# Altium integrated library Linear - Amplifiers - Instrumentation, OP Amps, Buffer Amps.IntLib: 8 symbols
Pins are listed as number, name and electrical type; pins without a type are passive.

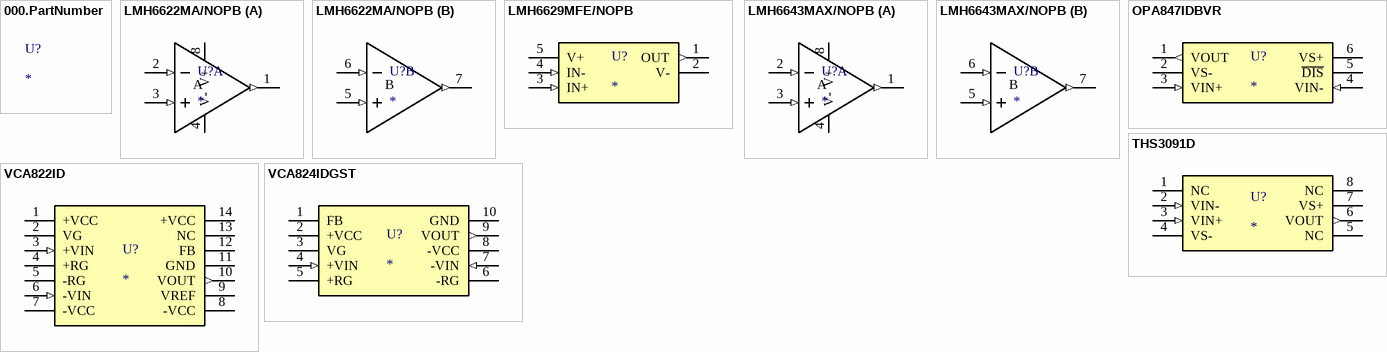
[diagram p0: symbols 000.PartNumber to VCA824IDGST]

## 000.PartNumber
designator U?
Digikey Description; Manufacturer: *; Series: *; Package: *; Amplifier Type: *; Output Type: *; Slew Rate: *; Current - Supply: *; Voltage - Supply, Single/Dual (±): *; Operating Temperature: *; Mounting Type: *; Package / Case: *; Supplier Device Package: *; Number of Circuits: *; -3db Bandwidth: *; Current - Input Bias: *; Voltage - Input Offset: *; Current - Output / Channel: *; Base Product Number: *; Ozdisan Link: *; Digikey Link: *

## LMH6622MA/NOPB
designator U?
IC OPAMP VFB 2 CIRCUIT 8SOIC; Manufacturer: Texas Instruments; Amplifier Type: Voltage Feedback; Output Type: Differential; Slew Rate: 85V/µs; Current - Supply: 4.3 mA (x2 Channels); Voltage - Supply, Single/Dual (±): 5V ~ 12V, ±2.5V ~ 6V; Number of Circuits: 2; -3db Bandwidth: 160 MHz; Current - Input Bias: 4.7 µA; Voltage - Input Offset: 200 µV; Current - Output / Channel: 90 mA; Base Product Number: LMH6622; Series: LMH®; Package: Tube; Operating Temperature: -40°C ~ 85°C; Mounting Type: Surface Mount; Package / Case: 8-SOIC (0.154", 3.90mm Width); Supplier Device Package: 8-SOIC; Ozdisan Link: https://ozdisan.com/entegre-devreler-ics/lineer-entegreler/amplifikatorler/LMH6622MANOPB; Digikey Link: https://www.digikey.com/en/products/detail/texas-instruments/LMH6622MA-NOPB/468357
footprint TI_8-SOIC
part A pins: 1 OUT (out), 2 IN- (in), 3 IN+ (in), 4 V-, 8 V+
part B pins: 5 IN+ (in), 6 IN- (in), 7 OUT (out)
part A text: A
part B text: B

## LMH6629MFE/NOPB
designator U?
IC OPAMP VFB 1 CIRCUIT SOT23-5; Manufacturer: Texas Instruments; Amplifier Type: Voltage Feedback; Slew Rate: 1600V/µs; Current - Supply: 15.5mA; Voltage - Supply, Single/Dual (±): 2.7V ~ 5.5V; Number of Circuits: 1; -3db Bandwidth: 1 GHz; Current - Input Bias: 15 µA; Voltage - Input Offset: 150 µV; Current - Output / Channel: 250 mA; Base Product Number: LMH6629; Series: -; Package: Tape & Reel (TR); Output Type: -; Operating Temperature: -40°C ~ 125°C; Mounting Type: Surface Mount; Package / Case: SC-74A, SOT-753; Supplier Device Package: SOT-23-5; Ozdisan Link: -; Digikey Link: https://www.digikey.com/en/products/detail/texas-instruments/LMH6629MFE-NOPB/2504263
footprint TI_SOT-23-5 (SOT-23 - 1.45 mm max height)
pins: 1 OUT (out), 2 V- (power), 3 IN+ (in), 4 IN- (in), 5 V+ (power)

## LMH6643MAX/NOPB
designator U?
IC OPAMP VFB 2 CIRCUIT 8SOIC; Manufacturer: Texas Instruments; Amplifier Type: Voltage Feedback; Output Type: Rail-to-Rail; Slew Rate: 135V/µs; Current - Supply: 2.7 mA (x2 Channels); Voltage - Supply, Single/Dual (±): 2.7V ~ 12.8V, ±1.35V ~ 6.4V; Number of Circuits: 2; -3db Bandwidth: 130 MHz; Current - Input Bias: 1.6 µA; Voltage - Input Offset: 1 mV; Current - Output / Channel: 75 mA; Base Product Number: LMH6643; Series: LMH®; Package: Tape & Reel (TR); Operating Temperature: -40°C ~ 85°C; Mounting Type: Surface Mount; Package / Case: 8-SOIC (0.154", 3.90mm Width); Supplier Device Package: 8-SOIC; Ozdisan Link: https://ozdisan.com/entegre-devreler-ics/lineer-entegreler/amplifikatorler/LMH6643MAXNOPB; Digikey Link: https://www.digikey.com/en/products/detail/texas-instruments/LMH6643MAX-NOPB/1872154?s=N4IgTCBcDaIDIFkASA2FAWAzAgggDQHoA5AeQAUAhEAXQF8g
footprint TI_8-SOIC
part A pins: 1 OUT (out), 2 IN- (in), 3 IN+ (in), 4 V-, 8 V+
part B pins: 5 IN+ (in), 6 IN- (in), 7 OUT (out)
part A text: A
part B text: B

## OPA847IDBVR
designator U?
IC OPAMP VFB 1 CIRCUIT SOT23-6; Manufacturer: Texas Instruments; Amplifier Type: Voltage Feedback; Slew Rate: 950 V/µs; Current - Supply: 18.1 mA; Voltage - Supply, Single/Dual (±): 5V ~ 12V, ±2.5V ~ 6V; Number of Circuits: 1; -3db Bandwidth: 3.9 GHz; Current - Input Bias: 19 µA; Voltage - Input Offset: 100 µV; Current - Output / Channel: 100 mA; Base Product Number: OPA847; Series: -; Package: Tape & Reel (TR); Output Type: -; Operating Temperature: -40°C ~ 85°C; Mounting Type: Surface Mount; Package / Case: SOT-23-6; Supplier Device Package: SOT-23-6; Ozdisan Link: -; Digikey Link: https://www.digikey.com/en/products/detail/texas-instruments/OPA847IDBVR/1572992
footprint TI_SOT-23-6
pins: 1 VOUT (out), 2 VS-, 3 VIN+ (in), 4 VIN- (in), 5 ~{DIS}, 6 VS+ (power)

## THS3091D
designator U?
IC OPAMP CFA 1 CIRCUIT 8SOIC; Manufacturer: Texas Instruments; Amplifier Type: Current Feedback; Slew Rate: 7300 V/µs; Current - Supply: 9.5 mA; Voltage - Supply, Single/Dual (±): 10V ~ 30V, ±5V ~ 15V; Number of Circuits: 1; -3db Bandwidth: 235 MHz; Current - Input Bias: 4 µA; Voltage - Input Offset: 900 µV; Current - Output / Channel: 280 mA; Base Product Number: THS3091; Series: -; Package: Tube; Output Type: -; Operating Temperature: -40°C ~ 85°C; Mounting Type: Surface Mount; Package / Case: 8-SOIC (0.154", 3.90mm Width); Supplier Device Package: 8-SOIC; Ozdisan Link: -; Digikey Link: https://www.digikey.com/en/products/detail/texas-instruments/THS3091D/610214
footprint TI_8-SOIC
pins: 1 NC, 2 VIN- (in), 3 VIN+ (in), 4 VS- (power), 5 NC, 6 VOUT (out), 7 VS+ (power), 8 NC

## VCA822ID
designator U?
IC OPAMP VGA 1 CIRCUIT 14SOIC; Manufacturer: Texas Instruments; Amplifier Type: Variable Gain; Slew Rate: 1700V/µs; Current - Supply: 36 mA; Voltage - Supply, Single/Dual (±): ±3.5V ~ 6V; Number of Circuits: 1; -3db Bandwidth: 168 MHz; Current - Input Bias: 19 µA; Voltage - Input Offset: 4 mV; Current - Output / Channel: 160 mA; Base Product Number: VCA822; Series: -; Package: Tube; Output Type: -; Operating Temperature: -40°C ~ 85°C; Mounting Type: Surface Mount; Package / Case: 14-SOIC (0.154", 3.90mm Width); Supplier Device Package: 14-SOIC; Ozdisan Link: -; Digikey Link: https://www.digikey.com/en/products/detail/texas-instruments/VCA822ID/1698964
footprint TI_14-SOIC
pins: 1 +VCC (power), 2 VG, 3 +VIN (in), 4 +RG, 5 -RG, 6 -VIN (in), 7 -VCC (power), 8 -VCC (power), 9 VREF, 10 VOUT (out), 11 GND (power), 12 FB, 13 NC, 14 +VCC (power)

## VCA824IDGST
designator U?
IC OPAMP VGA 1 CIRCUIT 10VSSOP; Manufacturer: Texas Instruments; Amplifier Type: Variable Gain; Slew Rate: 2500V/µs; Current - Supply: 36.5 mA; Voltage - Supply, Single/Dual (±): ±4V ~ 6V; Number of Circuits: 1; -3db Bandwidth: 710 MHz; Current - Input Bias: 19 µA; Voltage - Input Offset: 4 mV; Current - Output / Channel: 90 mA; Base Product Number: VCA824; Series: -; Package: Tape & Reel (TR); Output Type: -; Operating Temperature: -40°C ~ 85°C; Mounting Type: Surface Mount; Package / Case: 10-TFSOP, 10-MSOP (0.118", 3.00mm Width); Supplier Device Package: 10-VSSOP; Ozdisan Link: -; Digikey Link: https://www.digikey.com/en/products/detail/texas-instruments/VCA824IDGST/1766828
footprint TI_10-VSSOP
pins: 1 FB, 2 +VCC (power), 3 VG, 4 +VIN (in), 5 +RG, 6 -RG, 7 -VIN (in), 8 -VCC (power), 9 VOUT (out), 10 GND (power)